# Altium schematic symbol library SnapEDAsch.SchLib: 1 symbol
Pins are listed as number, name and electrical type; pins without a type are passive.

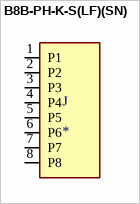
[diagram p0: symbol B8B-PH-K-S(LF)(SN)]

## B8B-PH-K-S(LF)(SN)
designator J
Connector Header Through Hole 8 position 0.079 _2.00mm_; MF: JST Sales; MP: B8B-PH-K-S_LF__SN_; SnapEDA_Link: https://www.snapeda.com/parts/B8B-PH-K-S%28LF%29%28SN%29/JST%20Sales%20America%20Inc./view-part/424392/?ref=snap; Value: *; Package: None
footprint JST_B8B-PH-K-S(LF)(SN)
pins: 1 P1, 2 P2, 3 P3, 4 P4, 5 P5, 6 P6, 7 P7, 8 P8